# Altium schematic symbol library POGO_Pin.Schlib: 1 symbol
Pins are listed as number, name and electrical type; pins without a type are passive.

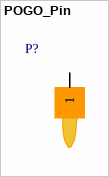
[diagram p0: symbol POGO_Pin]

## POGO_Pin
designator P?
pins: 1